# Altium footprint library TC264_主板_V2.6.PcbLib: 33 footprints (part 1 of 3)
Each footprint in its own frame and in the unit in brackets; x right, y up, seen from the top. Pads: shape width x height; smd on the part's side, far side on the other; paste and mask are expansions set on the pad; w line width, h text height; cw(c..) or ccw(c..) is an arc to the next point about the centre after c.
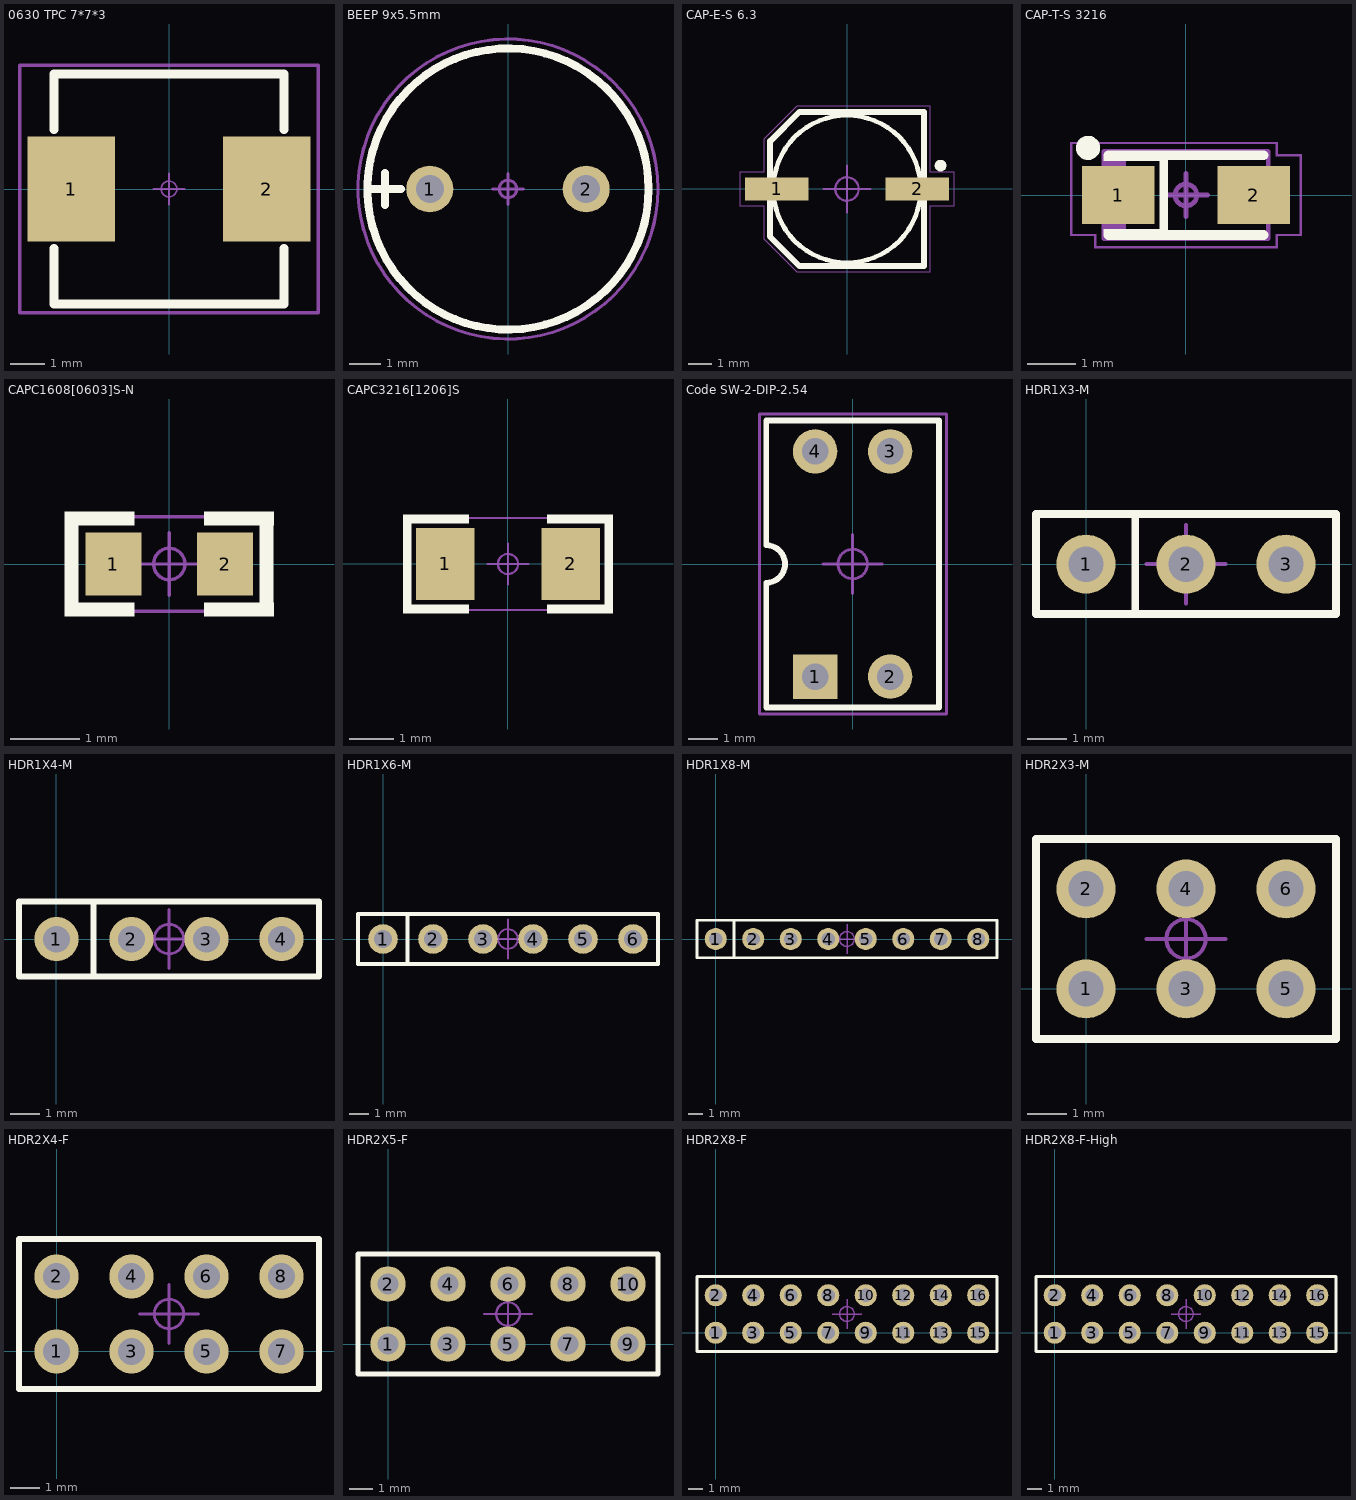
[diagram p0: the footprints below, top view; thin cyan lines are the x and y axes]

## 0630 TPC 7*7*3 [mm] "12mmx12mmx6.5mm 一体成型功率电感"
height 6.5
pads (2):
  rect 2.5x3 smd: 1(-2.8,0) 2(2.8,0)
Top Overlay:
  lines w0.254: -3.3,-1.7 -3.3,-3.3 3.3,-3.3 3.3,-1.7 ; -3.3,1.7 -3.3,3.3 3.3,3.3 3.3,1.7
Top Designator:
  text ".Designator" at -2.251,-0.226 h1
Top Component Outline:
  lines w0.1: -4.275,-3.55 4.275,-3.55 4.275,3.55 -4.275,3.55 -4.275,-3.55
Top Component Center:
  circle w0.05: c0,0 r0.225
  lines w0.05: -0.45,0 0.45,0 ; 0,-0.45 0,0.45
3D body: height 3, standoff 0, extent -3.3,-3.3 3.3,3.3

## BEEP 9x5.5mm [mm] "蜂鸣器 9x5.5mm"
pads (2):
  round 1.5 hole 0.9: 1(-2.5,0) 2(2.5,0)
Top Overlay:
  circle w0.254: c0,0 r4.5
  lines w0.254: -4.496,0 -3.429,0 ; -3.937,-0.508 -3.937,0.508
Top Designator:
  text ".Designator" at -2.251,-0.226 h1
Top Component Outline:
  circle w0.1: c0,0 r4.8
Top Component Center:
  circle w0.1: c0,0 r0.28
  lines w0.1: -0.5,0 0.5,0 ; 0,-0.5 0,0.5
3D body "cx-0905c.stp": height 5.05, standoff -5.45, extent -4.8,-4.8 4.8,4.8

## CAP-E-S 6.3 [mm] "贴片 铝电解电容 6.3mm"
height 5.5
pads (2):
  rect 2.7x1 smd: 1(-3,0) 2(3,0)
Top Overlay:
  circle w0.2: c0,0 r3.15
  circle w0.25: c4,1 r0.125
  lines w0.254: -3.3,2.032 -3.3,-2.032 -2.032,-3.3 3.3,-3.3 3.3,3.3 -2.032,3.3 -3.287,2.045
Top Designator:
  text ".Designator" at 2.251,0.226 h1
Top Component Outline:
  region: 3.575,-0.7 3.525,-0.7 3.525,-3.575 3.575,-3.575
  region: 4.6,-0.75 4.6,-0.7 3.525,-0.7 3.525,-0.75
  region: 4.6,0.75 4.55,0.75 4.55,-0.75 4.6,-0.75
  region: 3.525,0.75 3.525,0.7 4.6,0.7 4.6,0.75
  region: 3.575,3.575 3.525,3.575 3.525,0.7 3.575,0.7
  region: -3.539,-2.115 -3.575,-2.15 -2.15,-3.575 -2.114,-3.54
  region: -2.15,-3.525 -2.15,-3.575 3.575,-3.575 3.575,-3.525
  region: -2.114,3.54 -2.15,3.575 -3.575,2.15 -3.539,2.115
  region: 3.575,3.525 3.575,3.575 -2.15,3.575 -2.15,3.525
  rectangle: -3.575,-2.15 -3.525,-0.7
  region: -3.525,-0.75 -3.525,-0.7 -4.6,-0.7 -4.6,-0.75
  rectangle: -4.6,-0.75 -4.55,0.75
  region: -3.525,2.15 -3.575,2.15 -3.575,0.7 -3.525,0.7
  region: -3.525,0.7 -3.525,0.75 -4.6,0.75 -4.6,0.7
Top Component Center:
  circle w0.1: c0,0 r0.5
  lines w0.1: -1,0 1,0 ; 0,-1 0,1
3D body "SL-E.step": height 5.2, standoff 0, extent -3.5,-3.302 3.5,3.298

## CAP-T-S 3216 [mm] "贴片 钽电容 A型 3216"
height 1.8
pads (2):
  rect 1.5x1.2 smd: 1(-1.4,0) 2(1.4,0)
Top Overlay:
  circle w0.25: c-2.025,0.975 r0.125
  rectangle: -1.7,0.7 -0.375,0.85
  region: -0.375,-0.7 -1.7,-0.7 -1.7,-0.825 -0.375,-0.825
  rectangle: -0.551,-0.9 -0.376,0.85
  lines w0.2: -1.6,-0.825 1.6,-0.825 ; -1.6,0.825 1.6,0.825
Top Designator:
  text ".Designator" at 2.251,0.301 h1
Mechanical 13:
  rectangle: -1.7,-0.9 -1.243,0.9
  lines w0.1: -1.7,-0.9 -1.7,0.9 1.7,0.9 1.7,-0.9 -1.7,-0.9
Top Component Outline:
  region: -1.85,-0.8 -1.9,-0.8 -1.9,-1.1 -1.85,-1.1
  region: -1.85,-0.85 -1.85,-0.8 -2.4,-0.8 -2.4,-0.85
  rectangle: 1.85,-1.1 1.9,-0.8
  region: 2.4,-0.85 2.4,-0.8 1.85,-0.8 1.85,-0.85
  rectangle: 1.85,0.8 1.9,1.1
  region: 1.85,0.85 1.85,0.8 2.4,0.8 2.4,0.85
  rectangle: -2.4,-0.85 -2.35,1.1
  region: 1.9,1.05 1.9,1.1 -2.4,1.1 -2.4,1.05
  region: 2.4,0.85 2.35,0.85 2.35,-0.85 2.4,-0.85
  region: -1.9,-1.05 -1.9,-1.1 1.9,-1.1 1.9,-1.05
Top Component Center:
  circle w0.1: c0,0 r0.225
  lines w0.1: -0.45,0 0.45,0 ; 0,-0.45 0,0.45
3D body "TAJ-A.STEP": height 1.6, standoff 0, extent -1.6,-0.8 1.6,0.8

## CAPC1608[0603]S-N [mm] "0603贴片电容 有丝印 2脚 1.60x0.80mm IPC中密度"
height 0.85
pads (2):
  rect 0.8x0.9 smd: 1(-0.8,0) 2(0.8,0)
Top Overlay:
  region: 1.5,-0.55 0.5,-0.55 0.5,-0.75 1.5,-0.75
  region: 1.497,-0.75 1.497,0.75 1.297,0.75 1.297,-0.75
  region: 1.5,0.75 0.5,0.75 0.5,0.55 1.5,0.55
  rectangle: -1.5,0.55 -0.5,0.75
  region: -1.503,0.75 -1.503,-0.75 -1.303,-0.75 -1.303,0.75
  rectangle: -1.5,-0.75 -0.5,-0.55
Top Designator:
  text ".Designator" at -2.251,-0.226 h1
Top Component Outline:
  region: -1.45,-0.65 -1.45,-0.7 1.45,-0.7 1.45,-0.65
  region: 1.45,0.7 1.4,0.7 1.4,-0.7 1.45,-0.7
  region: 1.45,0.65 1.45,0.7 -1.45,0.7 -1.45,0.65
  rectangle: -1.45,-0.7 -1.4,0.7
Top Component Center:
  circle w0.05: c0,0 r0.225
  lines w0.05: -0.45,0 0.45,0 ; 0,-0.45 0,0.45
3D body: height 0.79, standoff 0, extent -0.45,-0.406 0.45,0.406
3D body: height 0.79, standoff 0, extent 0.45,-0.406 0.8,0.407
3D body: height 0.79, standoff 0, extent -0.8,-0.406 -0.45,0.406

## CAPC3216[1206]S [mm] "1206贴片电容 有丝印 2脚 3.20x1.60mm IPC中密度"
height 1.35
pads (2):
  rect 1.3x1.6 smd: 1(-1.4,0) 2(1.4,0)
Top Overlay:
  region: -2.35,1.1 -2.35,-1.1 -2.15,-1.1 -2.15,1.1
  region: 2.35,-1.1 2.35,1.1 2.15,1.1 2.15,-1.1
  rectangle: -2.35,0.9 -0.875,1.1
  region: 2.345,1.106 0.87,1.106 0.87,0.906 2.345,0.906
  rectangle: -2.35,-1.1 -0.875,-0.9
  region: 2.345,-0.906 0.87,-0.906 0.87,-1.106 2.345,-1.106
Top Designator:
  text ".Designator" at 2.251,0.226 h1
Top Component Outline:
  region: -2.3,-1 -2.3,-1.05 2.3,-1.05 2.3,-1
  region: 2.3,1.05 2.25,1.05 2.25,-1.05 2.3,-1.05
  region: 2.3,1 2.3,1.05 -2.3,1.05 -2.3,1
  rectangle: -2.3,-1.05 -2.25,1.05
Top Component Center:
  circle w0.05: c0,0 r0.225
  lines w0.05: -0.45,0 0.45,0 ; 0,-0.45 0,0.45
3D body "C 1206.STEP": height 1.21, standoff -0.01, extent -1.6,-0.81 1.6,0.81

## Code SW-2-DIP-2.54 [mm] "2位直插拨码开关 间距2.54"
height 1.2
pads (4):
  rect 1.5x1.5 hole 0.9: 1(-1.27,-3.81)
  round 1.5 hole 0.9: 2(1.27,-3.81) 3(1.27,3.81) 4(-1.27,3.81)
Top Overlay:
  lines w0.2: -2.925,-4.85 -2.925,-0.635 ccw(c-2.925,0) -2.925,0.635 -2.925,4.85 2.925,4.85 2.925,-4.85 -2.925,-4.85
Top Designator:
  text ".Designator" at -2.251,-0.226 h1
Top Component Outline:
  lines w0.1: -3.15,-5.075 3.175,-5.075 3.175,5.075 -3.15,5.075 -3.15,-5.075
Top Component Center:
  circle w0.1: c0,0 r0.5
  lines w0.1: -1,0 1,0 ; 0,-1 0,1
3D body "Switch-DIP-2.STEP": height 7.03, standoff -3.67, extent -3.04,-4.95 3.04,4.95

## HDR1X3-M [mm] "1x3pin, 2.54mm间距, 直插, 直排针"
pads (3):
  round 1.5 hole 0.9: 1(0,0) 2(2.54,0) 3(5.08,0)
Top Overlay:
  lines w0.2: 1.25,-1.25 1.25,1.25 ; -1.27,-1.27 6.35,-1.27 6.35,1.27 -1.27,1.27 -1.27,-1.27
Top Designator:
  text ".Designator" at 0.289,-0.226 h1
Top Component Outline:
  lines w0.1: -1.27,-1.27 6.35,-1.27 6.35,1.275 -1.27,1.275 -1.27,-1.27
Top Component Center:
  circle w0.1: c2.54,0 r0.5
  lines w0.1: 1.54,0 3.54,0 ; 2.54,-1 2.54,1
3D body "1001-3.STEP": height 8.54, standoff -3, extent -1.27,-1.27 6.35,1.27

## HDR1X4-M [mm] "1x4pin, 2.54mm间距, 直插, 直排针"
pads (4):
  round 1.5 hole 0.9: 1(0,0) 2(2.54,0) 3(5.08,0) 4(7.62,0)
Top Overlay:
  lines w0.2: 1.25,-1.25 1.25,1.25 ; -1.27,-1.27 8.89,-1.27 8.89,1.27 -1.27,1.27 -1.27,-1.27
Top Designator:
  text ".Designator" at 1.559,-0.226 h1
Top Component Outline:
  lines w0.1: -1.27,-1.27 -1.27,1.275 8.89,1.275 8.89,-1.27 -1.27,-1.27
Top Component Center:
  circle w0.1: c3.81,0 r0.5
  lines w0.1: 2.81,0 4.81,0 ; 3.81,-1 3.81,1
3D body "1001-4.STEP": height 8.54, standoff -3, extent -1.27,-1.27 8.89,1.27

## HDR1X6-M [mm] "1x6pin, 直插, 直排针, 2.54mm间距"
pads (6):
  round 1.5 hole 0.9: 1(0,0) 2(2.54,0) 3(5.08,0) 4(7.62,0) 5(10.16,0) 6(12.7,0)
Top Overlay:
  lines w0.2: 1.25,-1.25 1.25,1.25 ; -1.27,-1.27 13.97,-1.27 13.97,1.27 -1.27,1.27 -1.27,-1.27
Top Designator:
  text ".Designator" at 4.099,-0.226 h1
Top Component Outline:
  lines w0.1: -1.27,-1.27 13.97,-1.27 13.97,1.27 -1.27,1.27 -1.27,-1.27
Top Component Center:
  circle w0.1: c6.35,0 r0.5
  lines w0.1: 5.35,0 7.35,0 ; 6.35,-1 6.35,1
3D body "1001-6.STEP": height 8.54, standoff -3, extent -1.27,-1.27 13.97,1.27

## HDR1X8-M [mm] "1x7pin, 2.54mm间距, 直插, 直排针"
pads (8):
  round 1.5 hole 0.9: 1(0,0) 2(2.54,0) 3(5.08,0) 4(7.62,0) 5(10.16,0) 6(12.7,0) 7(15.24,0) 8(17.78,0)
Top Overlay:
  lines w0.2: 1.25,-1.25 1.25,1.25 ; -1.27,-1.27 19.05,-1.27 19.05,1.27 -1.27,1.27 -1.27,-1.27
Top Designator:
  text ".Designator" at 6.639,-0.226 h1
Top Component Outline:
  lines w0.1: -1.27,-1.27 19.05,-1.27 19.05,1.27 -1.27,1.27 -1.27,-1.27
Top Component Center:
  circle w0.1: c8.89,0 r0.5
  lines w0.1: 7.89,0 9.89,0 ; 8.89,-1 8.89,1
3D body "1001-8.STEP": height 8.54, standoff -3, extent -1.27,-1.27 19.05,1.27

## HDR2X3-M [mm] "2x3pin, 2.54mm间距, 直插, 直排针"
pads (6):
  round 1.5 hole 0.9: 1(0,0) 2(0,2.54) 3(2.54,0) 4(2.54,2.54) 5(5.08,0) 6(5.08,2.54)
Top Overlay:
  lines w0.2: 1.482,-1.27 6.35,-1.27 ; 6.35,-1.27 6.35,3.81 -1.27,3.81 -1.27,-1.27 6.35,-1.27
Top Designator:
  text ".Designator" at 0.289,1.044 h1
Top Component Outline:
  lines w0.1: -1.27,-1.275 6.35,-1.275 6.35,3.81 -1.27,3.81 -1.27,-1.275
Top Component Center:
  circle w0.1: c2.54,1.27 r0.5
  lines w0.1: 1.54,1.27 3.54,1.27 ; 2.54,0.27 2.54,2.27
3D body "HDR2x3.STEP": height 8.54, standoff -3, extent -1.27,-1.27 6.35,3.81

## HDR2X4-F [mm] "2x4pin, 2.54mm间距, 直插, 直排座"
pads (8):
  round 1.5 hole 0.9: 1(0,0) 2(0,2.54) 3(2.54,0) 4(2.54,2.54) 5(5.08,0) 6(5.08,2.54) 7(7.62,0) 8(7.62,2.54)
Top Overlay:
  lines w0.2: -1.27,-1.27 8.89,-1.27 8.89,3.81 -1.27,3.81 -1.27,-1.27
Top Designator:
  text ".Designator" at 6.061,1.496 h1
Top Component Outline:
  lines w0.1: -1.27,-1.27 8.89,-1.27 8.89,3.81 -1.27,3.81 -1.27,-1.27
Top Component Center:
  circle w0.1: c3.81,1.27 r0.5
  lines w0.1: 2.81,1.27 4.81,1.27 ; 3.81,0.27 3.81,2.27
3D body "2x4.stp": height 8.5, standoff -3.05, extent -1.505,-1.265 9.155,3.815

## HDR2X5-F [mm] "2x5pin, 2.54mm间距, 直插, 直排座"
pads (10):
  round 1.5 hole 0.9: 1(0,0) 2(0,2.54) 3(2.54,0) 4(2.54,2.54) 5(5.08,0) 6(5.08,2.54) 7(7.62,0) 8(7.62,2.54) 9(10.16,0) 10(10.16,2.54)
Top Overlay:
  lines w0.2: -1.27,-1.27 11.43,-1.27 11.43,3.81 -1.27,3.81 -1.27,-1.27
Top Designator:
  text ".Designator" at 7.331,1.496 h1
Top Component Outline:
  lines w0.1: -1.27,-1.27 11.43,-1.27 11.43,3.81 -1.27,3.81 -1.27,-1.27
Top Component Center:
  circle w0.1: c5.08,1.27 r0.5
  lines w0.1: 4.08,1.27 6.08,1.27 ; 5.08,0.27 5.08,2.27
3D body "2x5.stp": height 8.5, standoff -3, extent -1.52,-1.265 11.68,3.815

## HDR2X8-F [mm] "2x8pin, 2.54mm间距, 直插, 直排座"
pads (16):
  round 1.5 hole 0.9: 1(0,0) 2(0,2.54) 3(2.54,0) 4(2.54,2.54) 5(5.08,0) 6(5.08,2.54) 7(7.62,0) 8(7.62,2.54) 9(10.16,0) 10(10.16,2.54) 11(12.7,0) 12(12.7,2.54) 13(15.24,0) 14(15.24,2.54) 15(17.78,0) 16(17.78,2.54)
Top Overlay:
  lines w0.2: -1.27,-1.27 -1.27,3.81 19.05,3.81 19.05,-1.27 -1.27,-1.27
Top Designator:
  text ".Designator" at 6.639,1.044 h1
Top Component Outline:
  lines w0.1: -1.27,-1.27 19.05,-1.27 19.05,3.81 -1.27,3.81 -1.27,-1.27
Top Component Center:
  circle w0.1: c8.89,1.27 r0.5
  lines w0.1: 7.89,1.27 9.89,1.27 ; 8.89,0.27 8.89,2.27
3D body "2x8.stp": height 8.5, standoff -3.05, extent -1.52,-1.27 19.3,3.81

## HDR2X8-F-High [mm] "加高 2x8pin, 2.54mm间距, 直插, 直排座"
pads (16):
  round 1.5 hole 0.9: 1(0,0) 2(0,2.54) 3(2.54,0) 4(2.54,2.54) 5(5.08,0) 6(5.08,2.54) 7(7.62,0) 8(7.62,2.54) 9(10.16,0) 10(10.16,2.54) 11(12.7,0) 12(12.7,2.54) 13(15.24,0) 14(15.24,2.54) 15(17.78,0) 16(17.78,2.54)
Top Overlay:
  lines w0.2: -1.27,-1.27 19.05,-1.27 19.05,3.81 -1.27,3.81 -1.27,-1.27
Top Designator:
  text ".Designator" at 6.639,1.044 h1
Top Component Outline:
  lines w0.1: -1.27,-1.27 -1.27,3.81 19.05,3.81 19.05,-1.27 -1.27,-1.27
Top Component Center:
  circle w0.1: c8.89,1.27 r0.5
  lines w0.1: 7.89,1.27 9.89,1.27 ; 8.89,0.27 8.89,2.27
3D body "2x8加高直插排座.step": height 16.2, standoff -3.3, extent -1.52,-1.27 19.3,3.81